# Altium footprint library libysk_discrete.PcbLib: 8 footprints
Each footprint in its own frame and in the unit in brackets; x right, y up, seen from the top. Pads: shape width x height; smd on the part's side, far side on the other; paste and mask are expansions set on the pad; w line width, h text height; cw(c..) or ccw(c..) is an arc to the next point about the centre after c.
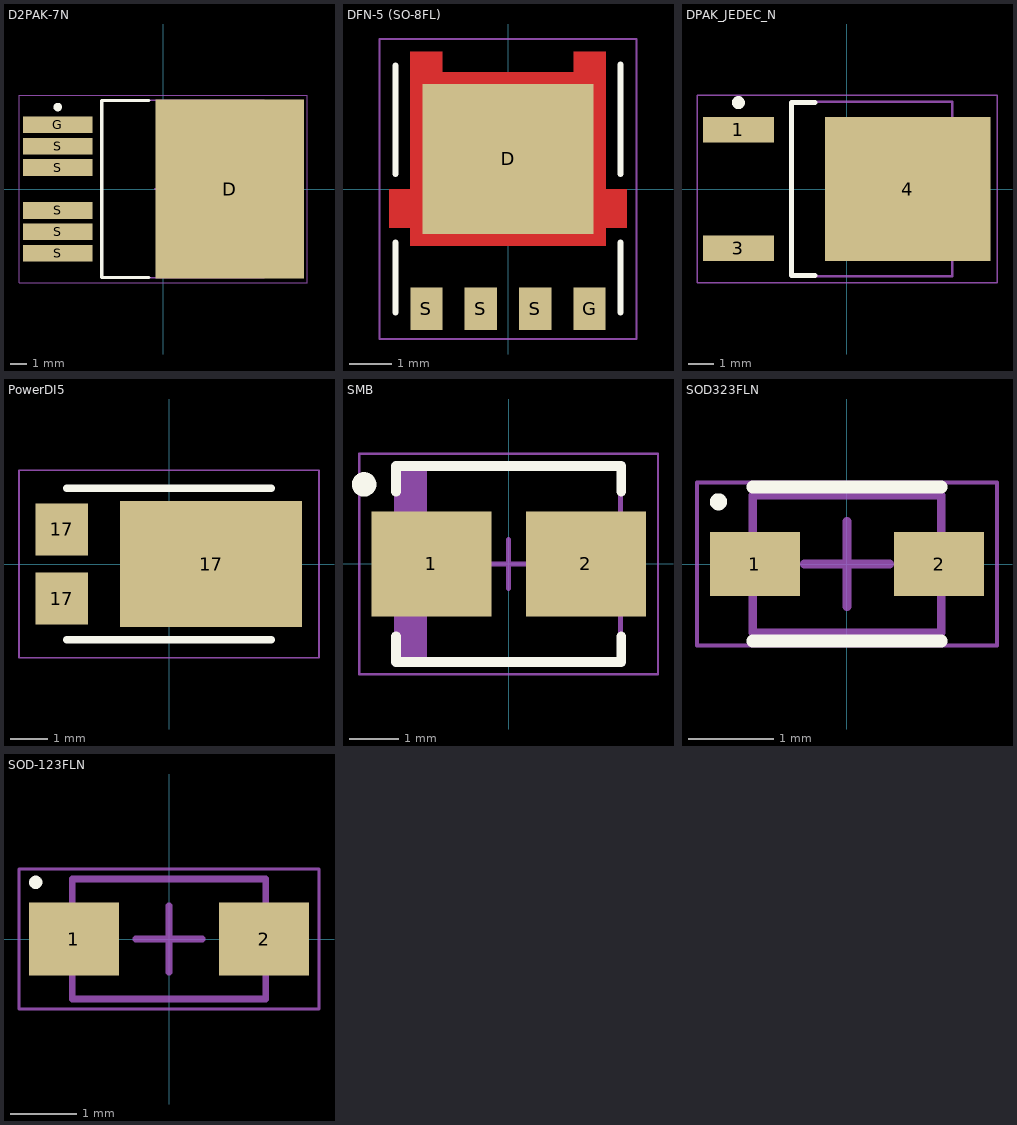
[diagram p0: the footprints below, top view; thin cyan lines are the x and y axes]

## D2PAK-7N [mm] "D2-PAK, 7-Pads, Body 7.93x8.63mm (max), IPC Medium Density"
height 4.83
pads (7):
  rect 8.8x10.6 smd: D(3.95,0)
  rect 4.15x1 smd: G(-6.25,3.81) S(-6.25,-3.81) S(-6.25,-2.54) S(-6.25,-1.27) S(-6.25,1.27) S(-6.25,2.54)
Top Overlay:
  circle w0.25: c-6.25,4.86 r0.125
  lines w0.2: -0.85,-5.25 -3.65,-5.25 -3.65,5.25 -0.85,5.25
Top 3D Body (Mech13):
  lines w0.1: -3.65,-5.275 6,-5.275 6,5.275 -3.65,5.275 -3.65,-5.275
Top Courtyard:
  lines w0.05: -8.55,-5.55 8.55,-5.55 8.55,5.55 -8.55,5.55 -8.55,-5.55
  lines w0.1: -0.5,0 0.5,0 ; 0,-0.5 0,0.5
3D body "D2PAK-7N.step": height 5.08, standoff 0, extent -7.405,-5.275 7.84,5.275

## DFN-5 (SO-8FL) [mm]
pads (5):
  rect 4x3.5 smd paste+0 mask+0: D(0,0.7)
  rect 0.75x1 smd: G(1.905,-2.795) S(-1.905,-2.795) S(-0.635,-2.795) S(0.635,-2.795)
Top Layer:
  region: -2.286,-1.33 -2.286,-0.905 -2.775,-0.905 -2.775,0 -2.28,0 -2.28,3.2 -1.53,3.2 -1.53,2.725 1.53,2.725 1.53,3.2 2.28,3.2 2.28,0 2.775,0 2.775,-0.905 2.28,-0.905 2.28,-1.33
Top Overlay:
  lines w0.15: -2.625,-2.875 -2.625,-1.25 ; -2.625,0.35 -2.625,2.875 ; 2.625,-2.875 2.625,-1.25 ; 2.625,0.35 2.625,2.9
Top Courtyard:
  lines w0.05: -3,-3.5 -3,3.5 3,3.5 3,-3.5 -3,-3.5
3D body "SO-8FL.stp": height 1, standoff 0, extent -2.575,-3.075 2.575,3.075

## DPAK_JEDEC_N [mm] "D-PAK, 3-Pads, Body 6.21x6.73mm (max), IPC Medium Density"
height 2.39
pads (3):
  rect 2.75x1 smd: 1(-4.2,2.29) 3(-4.2,-2.29)
  rect 6.4x5.55 smd: 4(2.35,0)
Top Overlay:
  circle w0.25: c-4.2,3.34 r0.125
  lines w0.2: -1.25,-3.35 -2.15,-3.35 -2.15,3.35 -1.25,3.35
Top 3D Body (Mech13):
  lines w0.1: -2.15,-3.375 4.07,-3.375 4.07,3.375 -2.15,3.375 -2.15,-3.375
Top Courtyard:
  lines w0.05: -5.8,-3.625 5.8,-3.625 5.8,3.625 -5.8,3.625 -5.8,-3.625
  lines w0.1: -0.5,0 0.5,0 ; 0,-0.5 0,0.5
3D body "DPAK_JEDEC_N.step": height 2.52, standoff 0, extent -4.39,-3.375 5.515,3.375

## PowerDI5 [mm] "Diodes Incorporated"
pads (3):
  rect 1.4x1.39 smd: 17(-2.862,-0.92) 17(-2.862,0.92)
  rect 4.86x3.36 smd: 17(1.12,0)
Top Overlay:
  lines w0.2: -2.725,-2.025 2.725,-2.025 ; -2.725,2.025 2.725,2.025
Top Courtyard:
  lines w0.05: -4,-2.5 -4,2.5 4,2.5 4,-2.5 -4,-2.5

## SMB [mm] "Molded Diode, 2-Leads, Body 4.31x3.62mm, IPC Medium Density"
height 2.5
pads (2):
  rect 2.45x2.15 smd: 1(-1.575,0) 2(1.575,0)
Top Overlay:
  circle w0.25: c-2.95,1.625 r0.125
  lines w0.2: -2.3,-1.475 -2.3,-2 2.3,-2 2.3,-1.475 ; -2.3,1.475 -2.3,2 2.3,2 2.3,1.475
Top 3D Body (Mech13):
  rectangle: -2.285,-1.97 -1.67,1.97
  lines w0.1: -2.285,-1.97 -2.285,1.97 2.285,1.97 2.285,-1.97 -2.285,-1.97
Top Courtyard:
  lines w0.05: -3.05,-2.25 -3.05,2.25 3.05,2.25 3.05,-2.25 -3.05,-2.25
  lines w0.1: -0.5,0 0.5,0 ; 0,-0.5 0,0.5
3D body "SMB.step": height 2.5, standoff 0, extent -2.505,-1.97 2.505,1.97

## SOD323FLN [mm] "SODFL, 2-Leads, Body 1.45x2.60mm, IPC Medium Density"
height 1.1
pads (2):
  rect 1.05x0.75 smd: 1(-1.075,0) 2(1.075,0)
Top Overlay:
  circle w0.1: c-1.5,0.725 r0.05
  lines w0.15: -1.1,-0.9 1.1,-0.9 ; -1.1,0.9 1.1,0.9
Top 3D Body (Mech13):
  lines w0.1: -1.1,-0.8 -1.1,0.8 1.1,0.8 1.1,-0.8 -1.1,-0.8
Top Courtyard:
  lines w0.05: -1.75,-0.95 -1.75,0.95 1.75,0.95 1.75,-0.95 -1.75,-0.95
  lines w0.1: -0.5,0 0.5,0 ; 0,-0.5 0,0.5
3D body "SOD323FLN.step": height 1.1, standoff 0, extent -1.3,-0.8 1.3,0.8

## SOD-123FLN [mm] "SOD-123FL, 2-Leads, Body 1.65x3.60mm, IPC Medium Density"
height 0.95
pads (2):
  rect 1.35x1.1 smd: 1(-1.425,0) 2(1.425,0)
Top Overlay:
  circle w0.1: c-2,0.85 r0.05
Top 3D Body (Mech13):
  lines w0.1: -1.45,-0.9 1.45,-0.9 1.45,0.9 -1.45,0.9 -1.45,-0.9
Top Courtyard:
  lines w0.05: -2.25,-1.05 2.25,-1.05 2.25,1.05 -2.25,1.05 -2.25,-1.05
  lines w0.1: -0.5,0 0.5,0 ; 0,-0.5 0,0.5
3D body "SOD-123FLN.step": height 0.95, standoff 0, extent -1.8,-0.9 1.8,0.9

## TOLL [mm]